# Altium integrated library T2N7002BK,LM.IntLib: 2 symbols
Pins are listed as number, name and electrical type; pins without a type are passive.

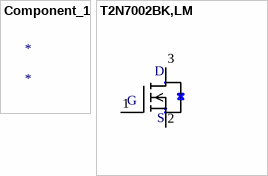
[diagram p0: symbols Component_1 to T2N7002BK,LM]

## Component_1
designator *

## T2N7002BK,LM
designator MOSFET?
No Description Available; Mfr_Name: Toshiba Electronic Devices & Storage Corp.; RefDes: RefDes; Type: Type
footprint SOT23_TOS
pins: 1 G, 2 S, 3 D